# Altium footprint library Custom.PcbLib: 446 footprints (part 28 of 28)
Each footprint in its own frame and in the unit in brackets; x right, y up, seen from the top. Pads: shape width x height; smd on the part's side, far side on the other; paste and mask are expansions set on the pad; w line width, h text height; cw(c..) or ccw(c..) is an arc to the next point about the centre after c.
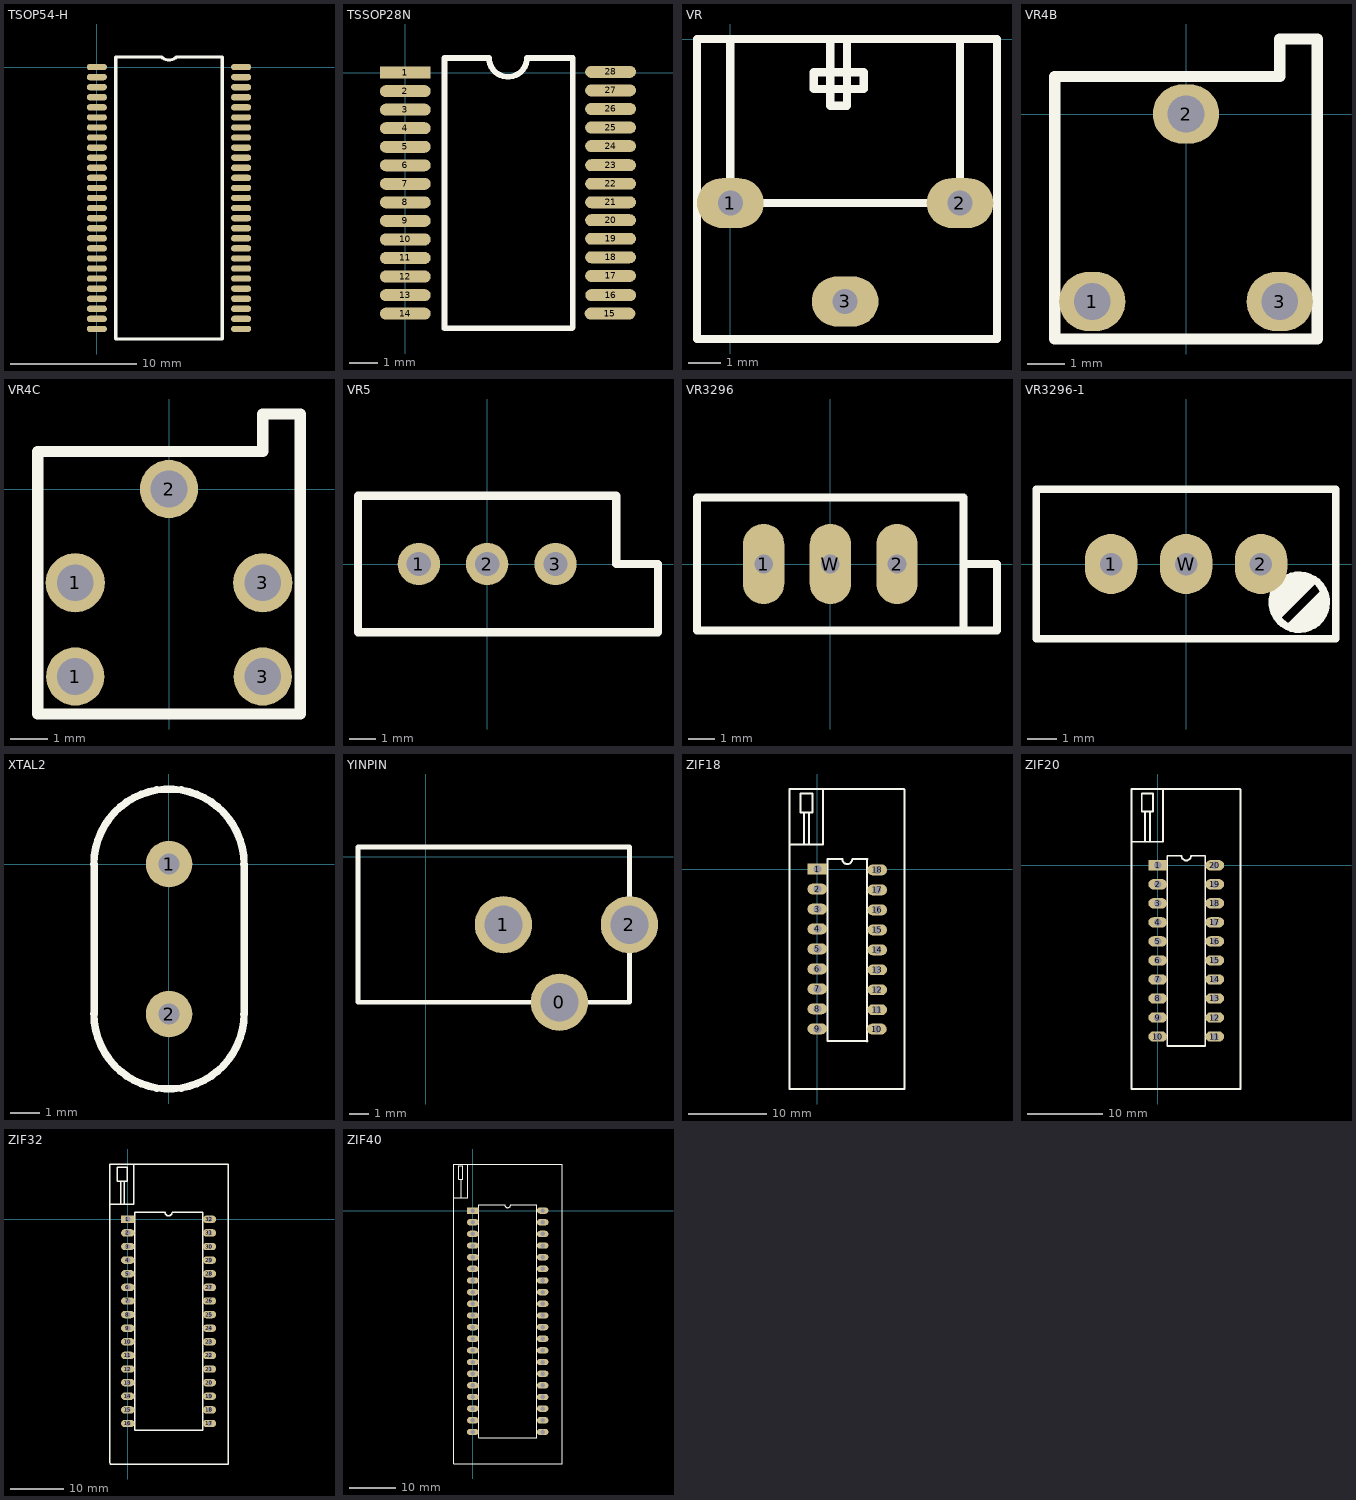
[diagram p27: the footprints below, top view; thin cyan lines are the x and y axes]

## TSOP54-H [mm]
pads (54):
  oval 1.6x0.5 smd: 1(-0.009,0.009) 2(-0.009,-0.791) 3(-0.009,-1.591) 4(-0.009,-2.391) 5(-0.009,-3.191) 6(-0.009,-3.991) 7(-0.009,-4.791) 8(-0.009,-5.591) 9(-0.009,-6.391) 10(-0.009,-7.191) 11(-0.009,-7.991) 12(-0.009,-8.791) 13(-0.009,-9.591) 14(-0.009,-10.391) 15(-0.009,-11.191) 16(-0.009,-11.991) 17(-0.009,-12.791) 18(-0.009,-13.591) 19(-0.009,-14.391) 20(-0.009,-15.191) 21(-0.009,-15.991) 22(-0.009,-16.791) 23(-0.009,-17.591) 24(-0.009,-18.391) 25(-0.009,-19.191) 26(-0.009,-19.991) 27(-0.009,-20.791) 28(11.451,-20.791) 29(11.451,-19.991) 30(11.451,-19.191) 31(11.451,-18.391) 32(11.451,-17.591) 33(11.451,-16.791) 34(11.451,-15.991) 35(11.451,-15.191) 36(11.451,-14.391) 37(11.451,-13.591) 38(11.451,-12.791) 39(11.451,-11.991) 40(11.451,-11.191) 41(11.451,-10.391) 42(11.451,-9.591) 43(11.451,-8.791) 44(11.451,-7.991) 45(11.451,-7.191) 46(11.451,-6.391) 47(11.451,-5.591) 48(11.451,-4.791) 49(11.451,-3.991) 50(11.451,-3.191) 51(11.451,-2.391) 52(11.451,-1.591) 53(11.451,-0.791) 54(11.451,0.009)
Top Overlay:
  lines w0.254: 1.491,-21.591 9.951,-21.591 9.951,0.809 6.312,0.809 cw(c5.721,1.4) 5.13,0.809 1.491,0.809 1.491,-21.591

## TSSOP28N [mm]
pads (28):
  rect 1.78x0.42 smd: 1(0.001,-0.003)
  oval 1.78x0.42 smd: 2(0.001,-0.653) 3(0.001,-1.303) 4(0.001,-1.953) 5(0.001,-2.603) 6(0.001,-3.253) 7(0.001,-3.903) 8(0.001,-4.553) 9(0.001,-5.203) 10(0.001,-5.853) 11(0.001,-6.503) 12(0.001,-7.153) 13(0.001,-7.803) 14(0.001,-8.453) 15(7.176,-8.453) 16(7.201,-7.803) 17(7.197,-7.128) 18(7.197,-6.478) 19(7.197,-5.828) 20(7.197,-5.178) 21(7.197,-4.55) 22(7.197,-3.9) 23(7.197,-3.25) 24(7.197,-2.578) 25(7.197,-1.928) 26(7.197,-1.278) 27(7.197,-0.628) 28(7.197,0.022)
Top Overlay:
  lines w0.204: 5.84,-8.967 1.371,-8.967 1.371,0.511 2.937,0.511 ccw(c3.601,0.511) 4.265,0.511 5.871,0.511 5.871,-7.765 5.871,-8.936

## VR [mil]
pads (3):
  oval 80x60 hole 30: 1(0,-196.85) 2(275.59,-196.85) 3(137.8,-314.96)
Top Overlay:
  lines w10: 120,0 120,-80 140,-80 140,0 ; 0,0 275.59,0 ; 0,0 0,-196.85 275.59,-196.85 275.59,0 ; 0,0 -40,0 -40,-360 320,-360 320,-300 320,0 275.59,0 ; 100,-60 160,-60 160,-40 100,-40 100,-60

## VR4B [mm]
pads (3):
  oval 1.8x1.6 hole 1: 1(-2.54,-5.08) 2(0,0) 3(2.54,-5.08)
Top Overlay:
  lines w0.305: -3.556,-6.096 -3.556,1.016 2.54,1.016 2.54,2.032 3.556,2.032 3.556,-6.096 -3.556,-6.096

## VR4C [mm]
pads (5):
  round 1.575 hole 1: 1(-2.54,-5.08) 2(0,0) 3(2.54,-5.08)
  round 1.6 hole 1: 1(-2.54,-2.54) 3(2.54,-2.54)
Top Overlay:
  lines w0.305: -3.556,-6.096 3.556,-6.096 3.556,2.032 2.54,2.032 2.54,1.016 -3.556,1.016 -3.556,-6.096

## VR5 [mil]
pads (3):
  round 62 hole 35.43: 1(-100,0) 2(0,0) 3(100,0)
Top Overlay:
  lines w12: -188.98,-100 250,-100 250,0 188.98,0 188.98,100 -188.98,100 -188.98,-100

## VR3296 [mil]
pads (3):
  oval 62x120 hole 28: 1(-100,0) 2(100,0) W(0,0)
Top Overlay:
  lines w12: 200,-100 200,0 ; 200,0 200,100 -200,100 -200,-100 250,-100 250,0 200,0

## VR3296-1 [mil]
pads (3):
  oval 70x80 hole 30: 1(-100,0) 2(100,0) W(0,0)
Top Overlay:
  circle w10: c151,-51 r36.06
  lines w10: 157.76,-74.24 164.24,-74.24 171,-81 ; 171,-21 151,-41 121,-71 121,-61 161,-21 141,-21 ; 172.88,-79.12 171,-81 ; 181,-41 141,-81 151,-81 ; 131,-31 141,-31 ; 131,-31 141,-21 ; 131,-31 121,-41 121,-51 141,-31 ; 141,-31 151,-31 141,-21 ; 141,-31 141,-21 ; 151,-81 166.82,-65.18 172.88,-65.18 187.06,-51 187.06,-47.06 172.88,-61.23 170.77,-61.23 171,-61.47 171,-81 ; 151,-81 171,-81 ; -200,-100 -200,100 200,100 200,-100 0,-100 -200,-100

## XTAL2 [mil]
pads (2):
  round 62 hole 28: 1(0,0) 2(0,-200)
Top Overlay:
  lines w10: -100,-200 ccw(c0,-200) 100,-200 100,0 ccw(c0,0) -100,0 -100,-200

## YINPIN [mm]
pads (3):
  round 3 hole 2: 0(7,-7.62) 1(4.064,-3.556) 2(10.668,-3.556)
Top Overlay:
  lines w0.254: -3.556,-7.62 10.668,-7.62 10.668,0.508 -3.556,0.508 -3.556,-7.62

## ZIF18 [mm]
pads (18):
  rect 2.5x1.38 hole 1: 1(0,0)
  oval 2.5x1.38 hole 1: 2(0,-2.54) 3(0,-5.08) 4(0,-7.62) 5(0,-10.16) 6(0,-12.7) 7(0,-15.24) 8(0,-17.78) 9(0,-20.32) 10(7.578,-20.354) 11(7.62,-17.894) 12(7.62,-15.354) 13(7.62,-12.814) 14(7.62,-10.274) 15(7.62,-7.734) 16(7.62,-5.194) 17(7.62,-2.654) 18(7.62,-0.114)
Top Overlay:
  lines w0.254: -3.535,-27.974 11.007,-27.974 ; -3.535,-27.821 -3.522,-18.236 -3.522,-7.112 -3.522,10.186 -3.252,10.186 11.022,10.186 ; -3.522,3.148 0.726,3.148 0.726,10.15 ; -1.686,3.238 -1.686,7.198 ; -1.038,3.148 -1.038,7.198 ; 6.346,-21.916 6.346,1.249 ; 6.35,-21.895 1.27,-21.895 1.27,1.27 3.175,1.27 ccw(c3.81,1.27) 4.445,1.27 6.35,1.27 ; 11.058,-27.974 11.076,-17.984 11.076,-6.986 11.076,10.132 ; -2.136,7.216 -2.118,7.198 -0.606,7.198 -0.606,9.574 -0.642,9.61 -2.136,9.61 -2.136,7.216

## ZIF20 [mm]
pads (20):
  rect 2.5x1.38 hole 1: 1(0,0)
  oval 2.5x1.38 hole 1: 2(0,-2.54) 3(0,-5.08) 4(0,-7.62) 5(0,-10.16) 6(0,-12.7) 7(0,-15.24) 8(0,-17.78) 9(0,-20.32) 10(0,-22.86) 11(7.62,-22.86) 12(7.62,-20.32) 13(7.62,-17.78) 14(7.62,-15.24) 15(7.62,-12.7) 16(7.62,-10.16) 17(7.62,-7.62) 18(7.62,-5.08) 19(7.62,-2.54) 20(7.62,0)
Top Overlay:
  lines w0.254: -3.522,-29.828 -3.522,-18.236 -3.522,-7.112 -3.522,10.186 -3.252,10.186 11.022,10.186 ; -3.522,3.148 0.726,3.148 0.726,10.15 ; -3.486,-29.864 7.602,-29.864 9.87,-29.864 11.04,-29.864 ; -1.686,3.238 -1.686,7.198 ; -1.038,3.148 -1.038,7.198 ; 11.076,-29.828 11.076,-17.984 11.076,-6.986 11.076,10.132 ; -2.136,7.216 -2.136,9.61 -0.642,9.61 -0.606,9.574 -0.606,7.198 -2.118,7.198 -2.136,7.216 ; 1.27,-24.13 1.27,1.27 3.175,1.27 ccw(c3.81,1.27) 4.445,1.27 6.35,1.27 6.35,-24.13 1.27,-24.13

## ZIF32 [mm]
pads (32):
  rect 2.5x1.38 hole 1: 1(0,0)
  oval 2.5x1.38 hole 1: 2(0,-2.54) 3(0,-5.08) 4(0,-7.62) 5(0,-10.16) 6(0,-12.7) 7(0,-15.24) 8(0,-17.78) 9(0,-20.32) 10(0,-22.86) 11(0,-25.4) 12(0,-27.94) 13(0,-30.48) 14(0,-33.02) 15(0,-35.56) 16(0,-38.1) 17(15.24,-38.1) 18(15.24,-35.56) 19(15.24,-33.02) 20(15.24,-30.48) 21(15.24,-27.94) 22(15.24,-25.4) 23(15.24,-22.86) 24(15.24,-20.32) 25(15.24,-17.78) 26(15.24,-15.24) 27(15.24,-12.7) 28(15.24,-10.16) 29(15.24,-7.62) 30(15.24,-5.08) 31(15.24,-2.54) 32(15.24,0)
Top Overlay:
  lines w0.254: -3.322,2.794 1.034,2.794 1.088,2.848 1.088,10.318 ; -3.07,10.318 18.71,10.318 18.71,-2.354 18.71,-7.97 18.71,-45.662 -3.304,-45.662 -3.322,-45.23 -3.322,-9.734 -3.322,-2.444 -3.322,9.922 -3.322,10.318 -2.242,10.318 ; -1.324,2.794 -1.324,7.078 ; -0.694,2.794 -0.694,7.078 ; -1.99,7.078 -1.99,9.706 -0.118,9.706 -0.118,7.078 -1.99,7.078 ; 1.27,-39.37 13.97,-39.37 13.97,1.27 8.255,1.27 cw(c7.62,1.27) 6.985,1.27 1.27,1.27 1.27,-39.37

## ZIF40 [mm]
pads (40):
  rect 2.5x1.38 hole 1: 1(0,0)
  oval 2.5x1.38 hole 1: 2(0,-2.54) 3(0,-5.08) 4(0,-7.62) 5(0,-10.16) 6(0,-12.7) 7(0,-15.24) 8(0,-17.78) 9(0,-20.32) 10(0,-22.86) 11(0,-25.4) 12(0,-27.94) 13(0,-30.48) 14(0,-33.02) 15(0,-35.56) 16(0,-38.1) 17(0,-40.64) 18(0,-43.18) 19(0,-45.72) 20(0,-48.26) 21(15.24,-48.26) 22(15.24,-45.72) 23(15.24,-43.18) 24(15.24,-40.64) 25(15.24,-38.1) 26(15.24,-35.56) 27(15.24,-33.02) 28(15.24,-30.48) 29(15.24,-27.94) 30(15.24,-25.4) 31(15.24,-22.86) 32(15.24,-20.32) 33(15.24,-17.78) 34(15.24,-15.24) 35(15.24,-12.7) 36(15.24,-10.16) 37(15.24,-7.62) 38(15.24,-5.08) 39(15.24,-2.54) 40(15.24,0)
Top Overlay:
  lines w0.254: -4.191,0 -4.191,10.16 19.558,10.16 19.558,0 19.558,-55.245 -1.397,-55.245 ; -4.191,0.762 -4.191,-55.245 -1.27,-55.245 ; -4.064,2.794 -1.143,2.794 -1.143,4.953 -1.143,10.16 ; -2.54,2.794 -2.54,6.858 ; -2.159,6.985 -2.159,6.858 ; -2.159,6.858 -2.159,9.779 -3.048,9.779 -3.048,6.858 -2.159,6.858 ; 1.27,-49.53 1.27,1.27 6.985,1.27 ccw(c7.62,1.27) 8.255,1.27 13.97,1.27 13.97,-49.53 1.27,-49.53